# Altium schematic symbol library Crystals.SchLib: 5 symbols
Pins are listed as number, name and electrical type; pins without a type are passive.

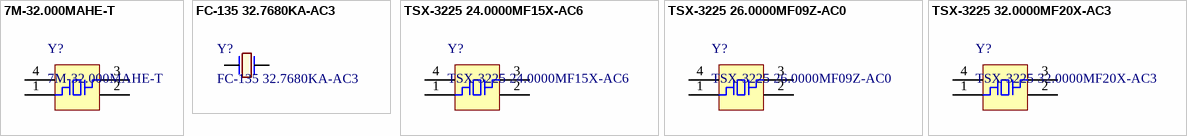
[diagram p0: symbols 7M-32.000MAHE-T to TSX-3225 32.0000MF20X-AC3]

## 7M-32.000MAHE-T
designator Y?
CRYSTAL 32.0000MHZ 12PF SMD; Manufacturer: TXC CORPORATION; Frequency: 32MHz; Frequency Stability: ±30ppm; ESR (Equivalent Series Resistance): 60 Ohm; Operating Mode: Fundamental; Supplier 1: Digi-Key; Supplier Part Number 1: 887-1789-1-ND; Manufacturer Part Number: 7M-32.000MAHE-T; RoHS: RoHS Compliant; Category: Crystals, Oscillators, Resonators; Stock 1: 5976; Pricing 1: 1=1, 10=0.886, 50=0.8278, 100=0.7315, 500=0.693, 1000=0.5775 (USD); Packaging: Cut Tape (CT); Part Status: Active; Type: MHz Crystal; Frequency Tolerance: ±30ppm; Load Capacitance: 12pF; Operating Temperature: -40°C ~ 85°C; Ratings: -; Mounting Type: Surface Mount; Size / Dimension: 0.126" L x 0.098" W (3.20mm x 2.50mm); Height - Seated (Max): 0.031" (0.80mm); ComponentLink1URL: http://www.txccorp.com/download/products/quartz_crystals/2015TXC_7M_17.pdf; ComponentLink1Description: http://www.txccorp.com/download/products/quartz_crystals/2015TXC_7M_17.pdf; Package: 4-SMD, No Lead
footprint Crystal 4-SMD 32x25
pins: 1 XTAL, 2 GND, 3 XTAL, 4 GND

## FC-135 32.7680KA-AC3
designator Y?
CRYSTAL 32.7680 KHZ 9.0PF SMD; Manufacturer: EPSON; Frequency: 32.768kHz; Frequency Tolerance: ±20ppm; Load Capacitance: 9pF; ESR (Equivalent Series Resistance): 70 kOhm; Operating Mode: Fundamental; Supplier 1: Digi-Key; Supplier Part Number 1: SER4085CT-ND; Manufacturer Part Number: FC-135 32.7680KA-AC3; RoHS: RoHS Compliant; Category: Crystals, Oscillators, Resonators; Stock 1: 879; Pricing 1: 1=0.77, 10=0.683, 50=0.6386, 100=0.5643 (USD); Packaging: Cut Tape (CT); Part Status: Active; Type: kHz Crystal (Tuning Fork); Frequency Stability: -; Operating Temperature: -40°C ~ 85°C; Ratings: -; Mounting Type: Surface Mount; Size / Dimension: 0.126" L x 0.061" W (3.20mm x 1.50mm); Height - Seated (Max): 0.035" (0.90mm); ComponentLink1URL: https://support.epson.biz/td/api/doc_check.php?dl=brief_FC-135R_en.pdf; ComponentLink1Description: https://support.epson.biz/td/api/doc_check.php?dl=brief_FC-135R_en.pdf; Package: 2-SMD, No Lead
footprint Crystal 2-SMD 32x15 (Crystal 3.2mm x 1.5mm SMD)
pins: 1, 2

## TSX-3225 24.0000MF15X-AC6
designator Y?
CRYSTAL 24.00 MHZ 9.0PF SMD; Manufacturer: EPSON; Frequency: 24MHz; Frequency Stability: ±15ppm; Frequency Tolerance: ±10ppm; Load Capacitance: 9pF; ESR (Equivalent Series Resistance): 40 Ohm; Operating Mode: Fundamental; Supplier 1: Digi-Key; Supplier Part Number 1: SER4180CT-ND; Manufacturer Part Number: TSX-3225 24.0000MF15X-AC6; RoHS: RoHS Compliant; Category: Crystals, Oscillators, Resonators; Stock 1: 98550; Pricing 1: 1=0.56, 10=0.468, 50=0.4208, 100=0.374, 500=0.3553, 1000=0.2992 (USD); Packaging: Cut Tape (CT); Part Status: Active; Type: MHz Crystal; Operating Temperature: -40°C ~ 85°C; Ratings: -; Mounting Type: Surface Mount; Size / Dimension: 0.126" L x 0.098" W (3.20mm x 2.50mm); Height - Seated (Max): 0.024" (0.60mm); ComponentLink1URL: https://support.epson.biz/td/api/doc_check.php?dl=brief_FA-238V_en.pdf; ComponentLink1Description: https://support.epson.biz/td/api/doc_check.php?dl=brief_FA-238V_en.pdf; Package: 4-SMD, No Lead
footprint Crystal 4-SMD 32x25
pins: 1 XTAL, 2 GND, 3 XTAL, 4 GND

## TSX-3225 26.0000MF09Z-AC0
designator Y?
CRYSTAL 26.00 MHZ 9.0PF SMD; Manufacturer: EPSON; Frequency: 26MHz; Frequency Stability: ±9ppm; Frequency Tolerance: ±10ppm; Load Capacitance: 9pF; ESR (Equivalent Series Resistance): 40 Ohm; Operating Mode: Fundamental; Supplier 1: Digi-Key; Supplier Part Number 1: SER4105CT-ND; Manufacturer Part Number: TSX-3225 26.0000MF09Z-AC0; RoHS: RoHS Compliant; Category: Crystals, Oscillators, Resonators; Stock 1: 31245; Pricing 1: 1=0.56, 10=0.468, 50=0.4208, 100=0.374, 500=0.3553 (USD); Packaging: Cut Tape (CT); Part Status: Active; Type: MHz Crystal; Operating Temperature: -20°C ~ 75°C; Ratings: -; Mounting Type: Surface Mount; Size / Dimension: 0.126" L x 0.098" W (3.20mm x 2.50mm); Height - Seated (Max): 0.024" (0.60mm); ComponentLink1URL: https://support.epson.biz/td/api/doc_check.php?dl=brief_FA-238V_en.pdf; ComponentLink1Description: https://support.epson.biz/td/api/doc_check.php?dl=brief_FA-238V_en.pdf; Package: 4-SMD, No Lead
footprint Crystal 4-SMD 32x25
pins: 1 XTAL, 2 GND, 3 XTAL, 4 GND

## TSX-3225 32.0000MF20X-AC3
designator Y?
CRYSTAL 32.00 MHZ 9.0PF SMD; Manufacturer: EPSON; Frequency: 32MHz; Frequency Stability: ±20ppm; Frequency Tolerance: ±10ppm; Load Capacitance: 9pF; ESR (Equivalent Series Resistance): 40 Ohm; Operating Mode: Fundamental; Supplier 1: Digi-Key; Supplier Part Number 1: TSX-3225 32.0000MF20X-AC3-ND; Manufacturer Part Number: TSX-3225 32.0000MF20X-AC3; RoHS: RoHS Compliant; Category: Crystals, Oscillators, Resonators; Stock 1: 0; Pricing 1: 250=0.34 (USD); Packaging: Tape & Reel (TR); Part Status: Active; Type: MHz Crystal; Operating Temperature: -40°C ~ 85°C; Ratings: -; Mounting Type: Surface Mount; Size / Dimension: 0.126" L x 0.098" W (3.20mm x 2.50mm); Height - Seated (Max): 0.024" (0.60mm); ComponentLink1URL: https://support.epson.biz/td/api/doc_check.php?dl=brief_FA-238V_en.pdf; ComponentLink1Description: https://support.epson.biz/td/api/doc_check.php?dl=brief_FA-238V_en.pdf; Package: 4-SMD, No Lead
footprint Crystal 4-SMD 32x25
pins: 1 XTAL, 2 GND, 3 XTAL, 4 GND